# Altium integrated library Bourns.IntLib: 3 symbols
Pins are listed as number, name and electrical type; pins without a type are passive.

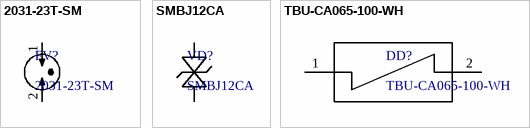
[diagram p0: symbols 2031-23T-SM to TBU-CA065-100-WH]

## 2031-23T-SM
designator FV?
Manufacturer: Bourns; ESKD: 2031-23T-SM
footprint 2031-23T_SM
pins: 1, 2

## SMBJ12CA
designator VD?
Manufacturer: Bourns; ESKD: SMBJ12CA
footprint SMBJ12CA
pins: 1, 2

## TBU-CA065-100-WH
designator DD?
Manufacturer: Bourns; ESKD: TBU-CA065-100-WH
footprint TBU-CA065-100-WH
pins: 1, 2